# Altium footprint library Cap 10uf.PCBLIB: 1 footprints
Each footprint in its own frame and in the unit in brackets; x right, y up, seen from the top. Pads: shape width x height; smd on the part's side, far side on the other; paste and mask are expansions set on the pad; w line width, h text height; cw(c..) or ccw(c..) is an arc to the next point about the centre after c.
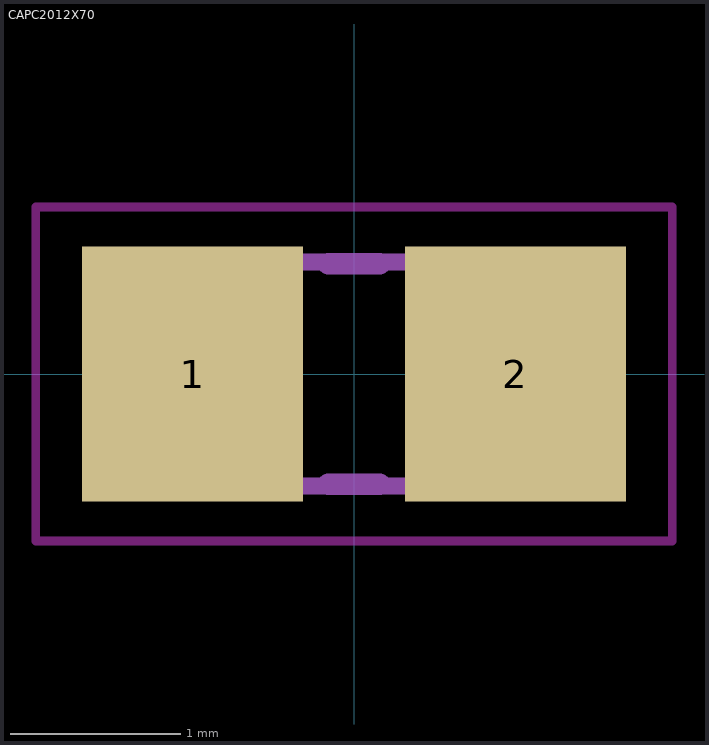
[diagram p0: the footprint, top view; thin cyan lines are the x and y axes]

## CAPC2012X70 [mm]
pads (2):
  rect 1.3x1.5 smd: 1(-0.95,0) 2(0.95,0)
Top keep-out:
  lines w0.051: -1.873,-0.983 1.873,-0.983 1.873,0.983 -1.873,0.983 -1.873,-0.983
tDocu:
  region: -1.092,-0.724 -1.092,0.726 -0.342,0.726 -0.342,-0.724
  region: 0.356,-0.724 0.356,0.726 1.106,0.726 1.106,-0.724
  lines w0.102: -0.381,0.66 0.381,0.66 ; -0.356,-0.66 0.381,-0.66
tPlace:
  lines w0.127: -0.15,-0.65 0.15,-0.65 ; -0.15,0.65 0.15,0.65